# Altium schematic symbol library Schlib1.SchLib: 4 symbols
Pins are listed as number, name and electrical type; pins without a type are passive.

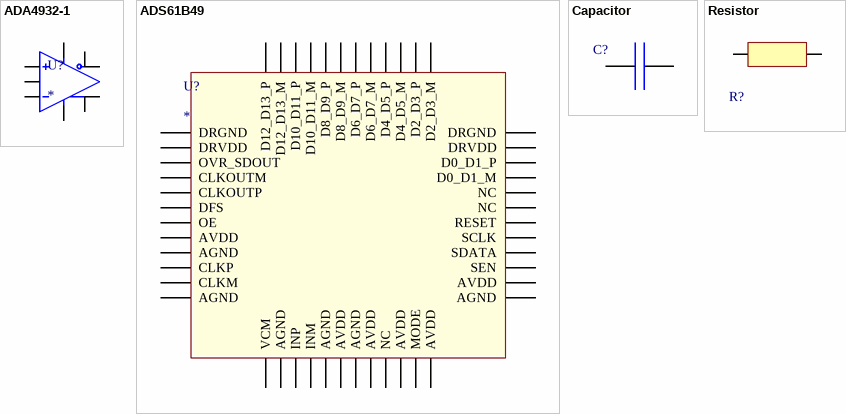
[diagram p0: symbols ADA4932-1 to Resistor]

## ADA4932-1
designator U?
footprint ADA4932-1; pin to pad 5>5+6+7+8 13>13+14+15+16
footprint ADA4932-1
pins: 1, 2, 3, 4, 5, 9 6, 10 7, 11 8, 13 9

## ADS61B49
designator U?
footprint ADS61B49
pins: 1,49 DRGND, 2 DRVDD, 3 OVR_SDOUT, 4 CLKOUTM, 5 CLKOUTP, 6 DFS, 7 OE, 8 AVDD, 9 AGND, 10 CLKP, 11 CLKM, 12 AGND, 13 VCM, 14 AGND, 15 INP, 16 INM, 17 AGND, 18 AVDD, 19 AGND, 20 AVDD, 21 NC, 22 AVDD, 23 MODE, 24 AVDD, 25 AGND, 26 AVDD, 27 SEN, 28 SDATA, 29 SCLK, 30 RESET, 31 NC, 32 NC, 33 D0_D1_M, 34 D0_D1_P, 35 DRVDD, 36 DRGND, 37 D2_D3_M, 38 D2_D3_P, 39 D4_D5_M, 40 D4_D5_P, 41 D6_D7_M, 42 D6_D7_P, 43 D8_D9_M, 44 D8_D9_P, 45 D10_D11_M, 46 D10_D11_P, 47 D12_D13_M, 48 D12_D13_P

## Capacitor
designator C?
footprint 0805
pins: 1 (power), 2 (power)

## Resistor
designator R?
footprint 0805
pins: 1 (power), 2 (power)